# Altium schematic symbol library ArcadeJoystick.SchLib: 5 symbols
Pins are listed as number, name and electrical type; pins without a type are passive.

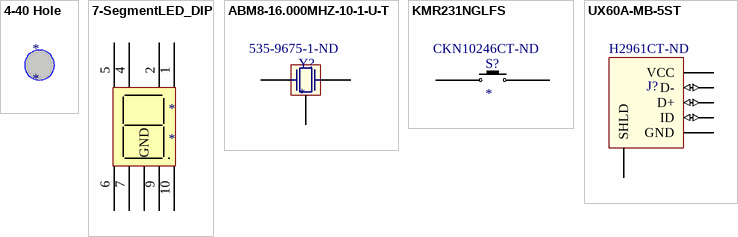
[diagram p0: symbols 4-40 Hole to UX60A-MB-5ST]

## 4-40 Hole
designator *
footprint 4-40 Hole

## 7-SegmentLED_DIP
designator *
footprint DIP10
pins: 1, 2, 4, 5, 6, 7, 8 GND, 9, 10

## ABM8-16.000MHZ-10-1-U-T
designator Y?  Supplier Part Number 1: 535-9675-1-ND
Crystal Resonator; Supplier 1: Digi-Key
footprint ABM8-16.000MHZ-10-1-U-T
pins: 0 GND, 2, 4

## KMR231NGLFS
designator S?  Supplier Part Number 1: CKN10246CT-ND
KMR 2 Series  Microminiature SMT Top Actuated; Supplier 1: Digi-Key
footprint KMR231NGLFS (Top Button Switch SMT)
pins: 1, 2

## UX60A-MB-5ST
designator J?  Supplier Part Number 1: H2961CT-ND  (hidden comment: *)
USBMiniBSocket Metal Shield SMT Type Without Positioning Post; Supplier 1: Digi-Key
footprint UX60A-MB-5ST (USBMiniBSocket)
pins: 0 SHLD, 1 VCC (power), 2 D- (io), 3 D+ (io), 4 ID (io), 5 GND